# Altium footprint library MLACH_obsolete.PCBLIB: 154 footprints (part 4 of 10)
Each footprint in its own frame and in the unit in brackets; x right, y up, seen from the top. Pads: shape width x height; smd on the part's side, far side on the other; paste and mask are expansions set on the pad; w line width, h text height; cw(c..) or ccw(c..) is an arc to the next point about the centre after c.
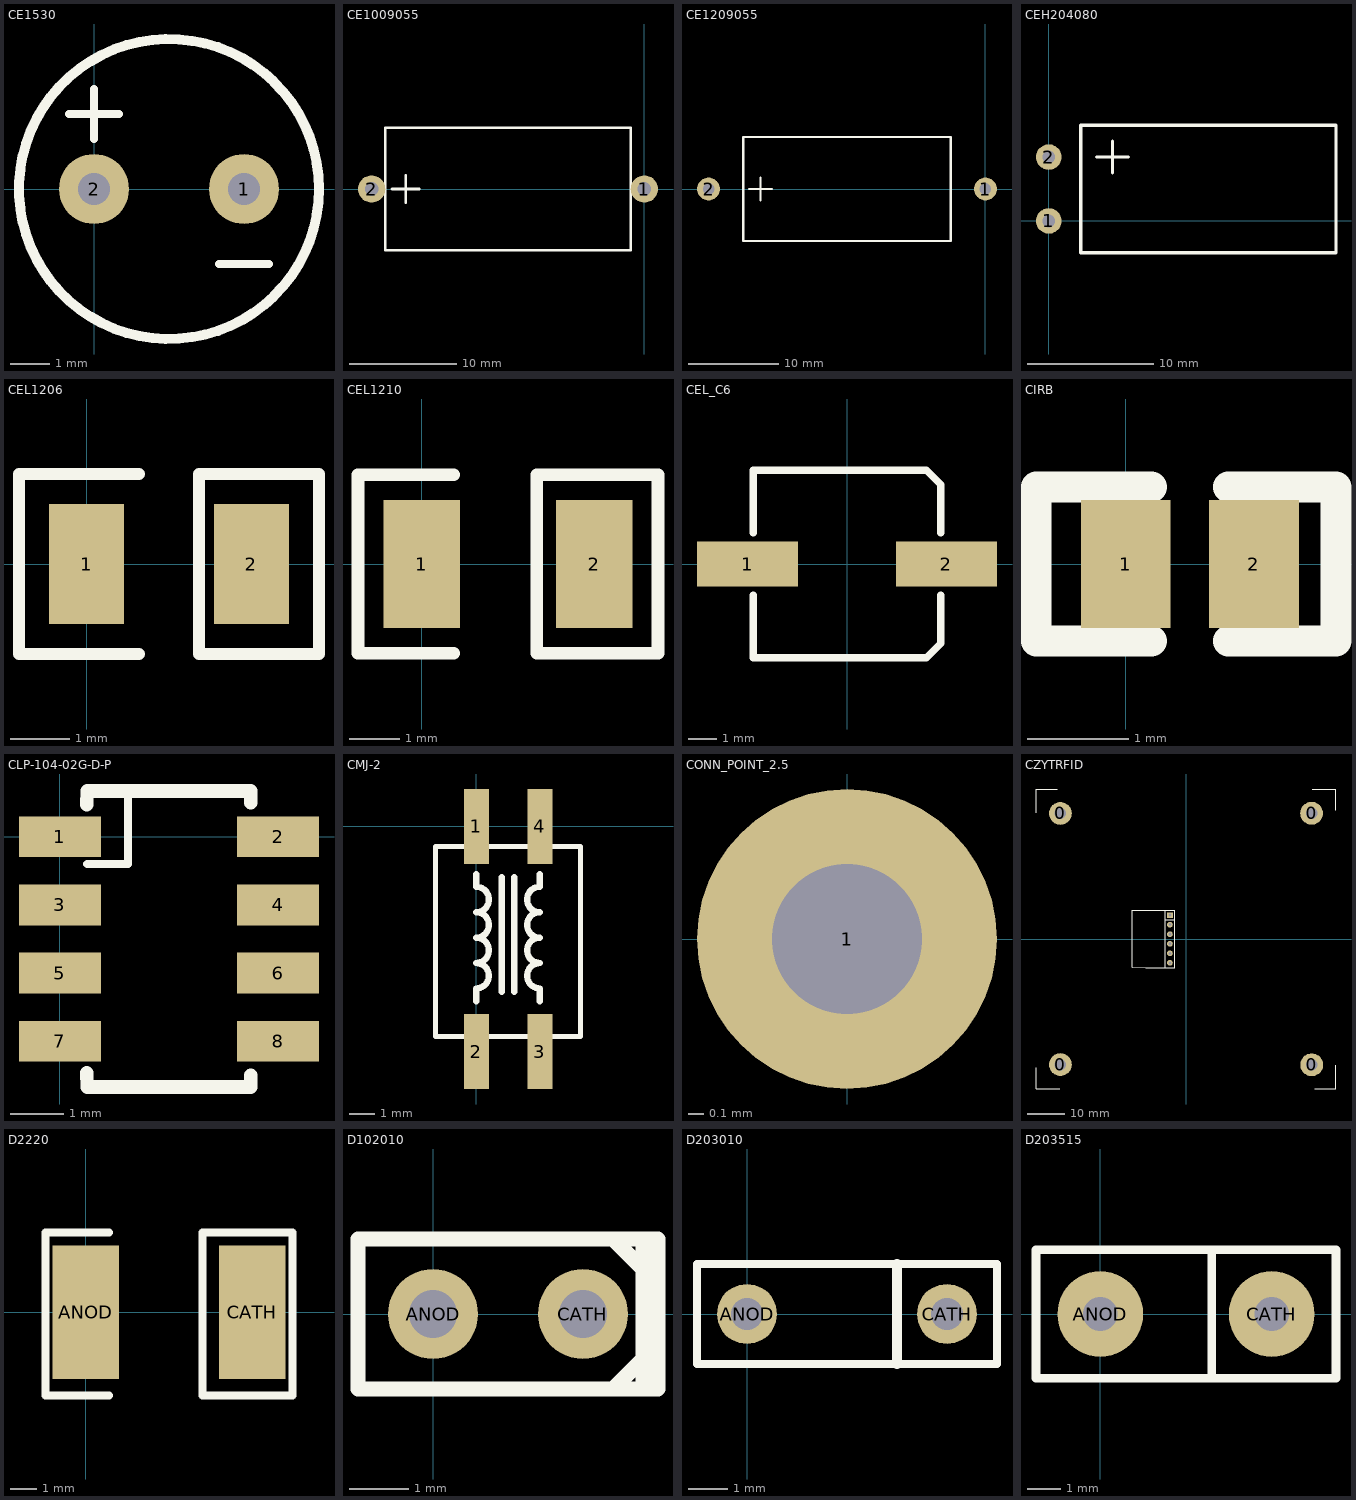
[diagram p3: the footprints below, top view; thin cyan lines are the x and y axes]

## CE1530 [mil]
pads (2):
  round 70 hole 32: 1(150,0) 2(0,0)
TopOverlay:
  circle w10: c75,0 r150
  lines w8: -25,75 25,75 ; 0,50 0,100 ; 125,-75 175,-75

## CE1009055 [mil]
pads (2):
  round 100 hole 50: 1(0,0) 2(-1000,0)
TopOverlay:
  lines w10: -925,0 -825,0 ; -875,-50 -875,50 ; -950,-225 -50,-225 -50,225 -950,225 -950,-225

## CE1209055 [mil]
pads (2):
  round 100 hole 50: 1(0,0) 2(-1200,0)
TopOverlay:
  lines w10: -1025,0 -925,0 ; -975,-50 -975,50 ; -1050,-225 -1050,225 -150,225 -150,-225 -1050,-225

## CEH204080 [mil]
pads (2):
  round 80 hole 40: 1(0,0) 2(0,200)
TopOverlay:
  lines w10: 150,200 250,200 ; 200,150 200,250 ; 100,-100 900,-100 900,300 100,300 100,-100

## CEL1206 [mil]
pads (2):
  rect 50x80 smd: 1(0,0) 2(110,0)
TopOverlay:
  lines w8: 35,-60 -45,-60 -45,60 35,60 ; 75,-60 75,60 155,60 155,-60 75,-60

## CEL1210 [mil]
pads (2):
  rect 60x100 smd: 1(0,0) 2(135,0)
TopOverlay:
  lines w10: 25,-70 -50,-70 -50,70 25,70 ; 90,-70 185,-70 185,70 90,70 90,-70

## CEL_C6 [mil]
pads (2):
  rect 140x63 smd: 1(-137.79,0) 2(137.79,0)
TopOverlay:
  lines w10: -129.92,-43.31 -129.92,-129.92 110.24,-129.92 129.92,-110.24 129.92,-43.31 ; -129.92,43.31 -129.92,129.92 110.24,129.92 129.92,110.24 129.92,43.31

## CIRB [mil]
pads (2):
  rect 35x50 smd: 1(0,0) 2(50,0)
TopOverlay:
  lines w12: 10,-30 -35,-30 -35,30 10,30 ; 40,-30 82,-30 82,30 40,30

## CLP-104-02G-D-P [mil]
pads (8):
  rect 60x30 smd: 1(0,0) 2(160,0) 3(0,-50) 4(160,-50) 5(0,-100) 6(160,-100) 7(0,-150) 8(160,-150)
TopOverlay:
  lines w6: 20,-20 50,-20 50,33.5
  lines w10: 19.68,-173.23 20,-183.5 140,-183.5 140,-175 ; 19.68,23.62 20,33.5 140,33.5 140,25

## CMJ-2 [mm]
pads (4):
  rect 1x3 smd: 1(0,0) 2(0,-9) 3(2.54,-9) 4(2.54,0)
TopOverlay:
  lines w0.2: -1.63,-8.4 4.17,-8.4 4.17,-0.8 -1.63,-0.8 -1.63,-8.4
  lines w0.254: 0,-6.985 0,-6.477 ccw(c0,-5.969) 0,-5.461 ccw(c0,-4.953) 0,-4.445 ccw(c0,-3.937) 0,-3.429 ccw(c0,-2.921) 0,-2.413 0,-1.905 ; 1.016,-6.604 1.016,-2.032 ; 1.524,-6.604 1.524,-2.032 ; 2.54,-6.985 2.54,-6.477 cw(c2.54,-5.969) 2.54,-5.461 cw(c2.54,-4.953) 2.54,-4.445 cw(c2.54,-3.937) 2.54,-3.429 cw(c2.54,-2.921) 2.54,-2.413 2.54,-1.905

## CONN_POINT_2.5 [mm]
pads (1):
  round 2 hole 1: 1(0,0)

## CZYTRFID [mil]
pads (10):
  round 240 hole 120: 0(-1319,-1319) 0(-1319,1319) 0(1319,1320) 0(1320,-1321)
  rect 60x60 hole 32: 1(-169,250)
  round 60 hole 32: 2(-169,150) 3(-169,50) 4(-169,-50) 5(-169,-150) 6(-169,-250)
TopOverlay:
  lines w10: -219,200 -119,200 ; -219,-300 -424,-300 -565,-299 -565,301 -414,300 -219,300 ; -219,-300 -119,-300 -119,300 -219,300 ; -219,-300 -219,300
  lines w12: -1575,-1350 -1575,-1575 -1325,-1575 ; -1575,1325 -1575,1575 -1350,1575 ; 1325,1575 1575,1575 1575,1350 ; 1350,-1575 1575,-1575 1575,-1325

## D2220 [mil]
pads (2):
  rect 100x200 smd: ANOD(0,0) CATH(250,0)
TopOverlay:
  lines w12: 35,-125 -60,-125 -60,120 35,120 ; 175,-125 175,120 310,120 310,-125 175,-125

## D102010 [mil]
pads (2):
  round 60 hole 32: ANOD(0,0) CATH(100,0)
TopOverlay:
  lines w10: 120,-50 150,-20 ; 120,50 150,20 ; 140,-50 140,50 ; -50,-50 -50,50 150,50 150,-50 -50,-50

## D203010 [mil]
pads (2):
  round 60 hole 32: ANOD(0,0) CATH(200,0)
TopOverlay:
  lines w8: -50,-50 -50,50 250,50 250,-50 -50,-50
  lines w10: 150,-50 150,50

## D203515 [mil]
pads (2):
  round 100 hole 40: ANOD(0,0) CATH(200,0)
TopOverlay:
  lines w10: 130,-75 130,75 ; -75,-75 -75,75 275,75 275,-75 -75,-75